# EAGLE library part LCD_14X2 (library mylib)
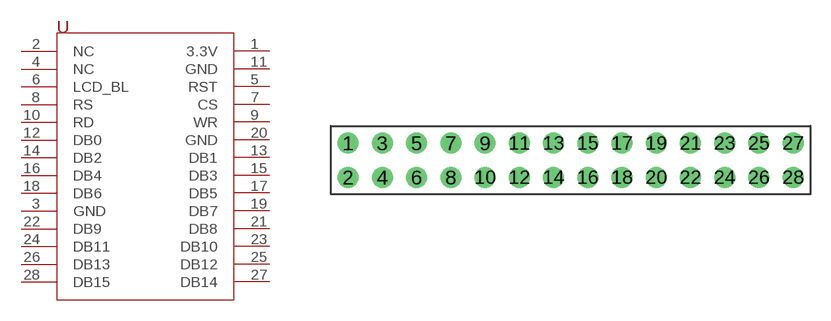
[diagram p15: symbol with the pads of LCD_14X2; footprint LCD_14X2]

Designator prefix -

## LCD_14X2  [LCD_14X2]
1  3.3V
2  NC
3  GND
4  NC
5  RST
6  LCD_BL
7  CS
8  RS
9  WR
10  RD
11  GND
12  DB0
13  DB1
14  DB2
15  DB3
16  DB4
17  DB5
18  DB6
19  DB7
20  GND
21  DB8
22  DB9
23  DB10
24  DB11
25  DB12
26  DB13
27  DB14
28  DB15

## Footprint LCD_14X2 (pad centres in mm)
drill 1.03: 1 -16.51,1.27; 2 -16.51,-1.27; 3 -13.97,1.27; 4 -13.97,-1.27; 5 -11.43,1.27; 6 -11.43,-1.27; 7 -8.89,1.27; 8 -8.89,-1.27; 9 -6.35,1.27; 10 -6.35,-1.27; 11 -3.81,1.27; 12 -3.81,-1.27; 13 -1.27,1.27; 14 -1.27,-1.27; 15 1.27,1.27; 16 1.27,-1.27; 17 3.81,1.27; 18 3.81,-1.27; 19 6.35,1.27; 20 6.35,-1.27; 21 8.89,1.27; 22 8.89,-1.27; 23 11.43,1.27; 24 11.43,-1.27; 25 13.97,1.27; 26 13.97,-1.27; 27 16.51,1.27; 28 16.51,-1.27